# Altium schematic symbol library rf.SchLib: 36 symbols
Pins are listed as number, name and electrical type; pins without a type are passive.

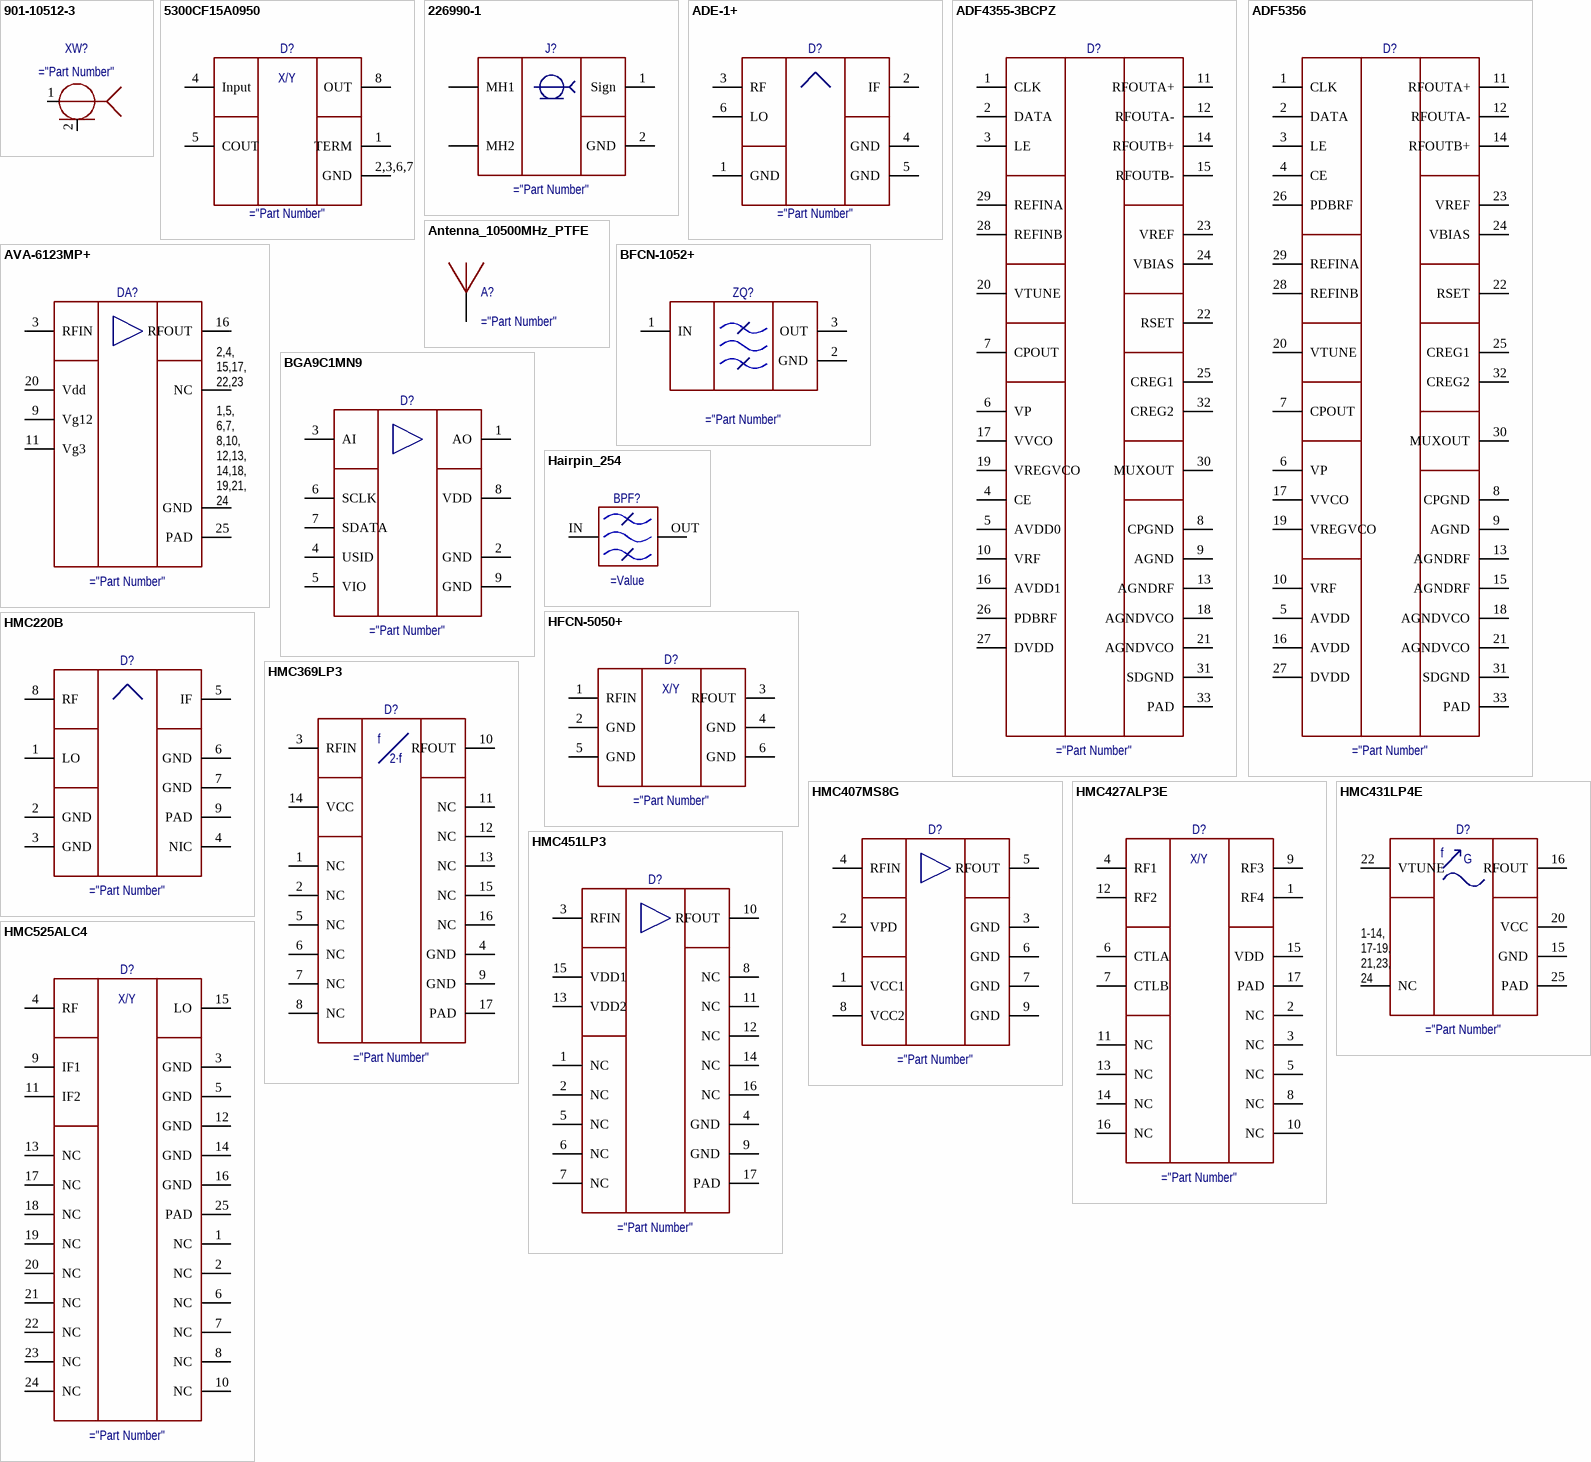
[diagram p0: symbols 901-10512-3 to HMC525ALC4]

## 901-10512-3
designator XW?
(VSWR) performance up to 26.5GHz. / Other features include 50Ω impedance, / 170V RMS voltage rating, 1000MΩ insulation resistance, and -65°C to +165°C temperature range.; ComponentLink1Description: Datasheet; ComponentLink1URL: https://static.chipdip.ru/lib/332/DOC030332423.pdf; ComponentLink2Description: Store; ComponentLink2URL: https://www.chipdip.ru/product0/8031527461
pins: 1, 2

## 5300CF15A0950
designator D?
5.3GHz Directional Coupler/ Low Pass Filter Combo Passive; ComponentLink1Description: Datasheet; ComponentLink1URL: https://www.minicircuits.com/pdfs/ADE-1+.pdf
pins: 1 TERM, 2,3,6,7 GND, 4 Input, 5 COUT, 8 OUT
text: X/Y

## 226990-1
designator J?
Connector BNC
pins: 1 Sign, 2 GND, MH1, MH2

## ADE-1+
designator D?
(LO Power +7 dBm) 0.5 to 500 MHz / IF DC - 500 MHz / ConvG = -6 dB / Isol L-R = 67 dB / RF power max = +17 dBm; ComponentLink1Description: Datasheet; ComponentLink1URL: https://www.minicircuits.com/pdfs/ADE-1+.pdf
pins: 1 GND, 2 IF, 3 RF, 4 GND, 5 GND, 6 LO

## ADF4355-3BCPZ
designator D?
The ADF4355-3 fractional-F or integer-N phase-locked loop (PLL) operation from 51.5625 MHz to 6600 MHz. / The ADF4355-3 has an integrated VCO with a fundamental output frequency ranging from 3300 MHz to 6600 MHz. In / addition, the VCO frequency is connected to divide by 1, 2, 4, 8, / 16, 32, or 64 circuits that allow the user to generate RF output frequencies as low as 51.5625 MHz. / VCO power supplies ranging from 3.1515 V to 3.4485 V.; ComponentLink1Description: DataSheet; ComponentLink1URL: https://static.chipdip.ru/lib/528/DOC011528621.pdf
pins: 1 CLK, 2 DATA, 3 LE, 4 CE, 5 AVDD0, 6 VP, 7 CPOUT, 8 CPGND, 9 AGND, 10 VRF, 11 RFOUTA+, 12 RFOUTA-, 13 AGNDRF, 14 RFOUTB+, 15 RFOUTB-, 16 AVDD1, 17 VVCO, 18 AGNDVCO, 19 VREGVCO, 20 VTUNE, 21 AGNDVCO, 22 RSET, 23 VREF, 24 VBIAS, 25 CREG1, 26 PDBRF, 27 DVDD, 28 REFINB, 29 REFINA, 30 MUXOUT, 31 SDGND, 32 CREG2, 33 PAD

## ADF5356
designator D?
The ADF5356 fractional-F or integer-N phase-locked loop (PLL) operation from 53.125 MHz to 13,600 MHz / The ADF5356 has an integrated VCO with a fundamental output frequency ranging from  53.125 MHz to 6800 MHz. / In addition, the VCO frequency is connected to divide by 1, 2, 4, 8, / 16, 32, or 64 circuits that allow the user to generate RF output frequencies as low as 51.5625 MHz. / VCO power supplies ranging from 4.75 V to 5.25 V.; ComponentLink1Description: DataSheet; ComponentLink1URL: https://www.micro-semiconductor.com/datasheet/8f-ADF5356BCPZ-RL7.pdf
pins: 1 CLK, 2 DATA, 3 LE, 4 CE, 5 AVDD, 6 VP, 7 CPOUT, 8 CPGND, 9 AGND, 10 VRF, 11 RFOUTA+, 12 RFOUTA-, 13 AGNDRF, 14 RFOUTB+, 15 AGNDRF, 16 AVDD, 17 VVCO, 18 AGNDVCO, 19 VREGVCO, 20 VTUNE, 21 AGNDVCO, 22 RSET, 23 VREF, 24 VBIAS, 25 CREG1, 26 PDBRF, 27 DVDD, 28 REFINB, 29 REFINA, 30 MUXOUT, 31 SDGND, 32 CREG2, 33 PAD

## Antenna_10500MHz_PTFE
designator A?
АНТЕННА 10,5 ГГц / WL-CT350 18мкм 508мкм / 18 dBi / ДИАМЕТР ВЫРЕЗА ПОЛИГОНА ЗЕМЛИ ВОКРУГ ОТВЕРСТИЯ НА ВНУТРЕННИХ СЛОЯХ 1,8мм / PTFE 15 mm
pins: 1

## AVA-6123MP+
designator DA?
VCO w/ BUFFER / AMPLIFIER, 5.5 - 6.1 GHz; Manufactured: Mini-Circuits; PartNumber: AVA-6123MP+; ComponentLink1Description: DataSheet; ComponentLink1URL: https://www.minicircuits.com/pdfs/AVA-6123MP+.pdf
pins: 1,5,6,7,8,10,12,13,14,18,19,21,24 GND, 2,4,15,17,22,23 NC, 3 RFIN, 9 Vg12, 11 Vg3, 16 RFOUT, 20 Vdd, 25 PAD
text: 2,4, / 15,17, / 22,23; 1,5, / 6,7, / 8,10, / 12,13, / 14,18, / 19,21, / 24

## BFCN-1052+
designator ZQ?
Bandpass Filter 50Ω 9.7 to 11.95 GHz / Pass Band Insertion Loss = 1.35 dB / Stop Band, Lower: DC-8100 30 dB / Stop Band, Upper: 14000-28500 28 dB / RF Power Input max: 2W; ComponentLink1Description: Datasheet; ComponentLink1URL: https://www.minicircuits.com/pdfs/BFCN-1052+.pdf
pins: 1 IN, 2 GND, 3 OUT

## BGA9C1MN9
designator D?
4.5 GHz Low Noise Amplifier with Gain Steps and MIPI Control / Supply Voltage: +5V; ComponentLink1Description: DataSheet; ComponentLink1URL: https://www.micro-semiconductor.com/datasheet/21-HMC407MS8GETR.pdf
pins: 1 AO, 2 GND, 3 AI, 4 USID, 5 VIO, 6 SCLK, 7 SDATA, 8 VDD, 9 GND

## Hairpin_254
designator BPF?
cent freq = 10.5 GHz / bandwidth = 400 MHz / losse = -4 dB / lock bandwidth = 2 GHz
pins: IN, OUT

## HFCN-5050+
designator D?
High Pass Filter
pins: 1 RFIN, 2 GND, 3 RFOUT, 4 GND, 5 GND, 6 GND
text: X/Y

## HMC220B
designator D?
The HMC220B is an ultraminiature, double-balanced mixer in / an 8-lead mini small outline package. This fundamental, / mixer is constructed of gallium arsenide (GaAs). / Schottky diodes and planar transformer baluns on the chip. / The device can be used as an upconverter, downconverter, / biphase demodulator, or phase comparator from 5 GHz to / 12 GHz. The HMC220B provides excellent local oscillator (LO) / to radio frequency (RF) and LO to intermediate frequency (IF) / isolation due to optimized balun structures and operates as low as / 7 dBm.; ComponentLink1Description: Datasheet; ComponentLink1URL: https://www.micro-semiconductor.com/datasheet/51-HMC220BMS8GE.pdf
pins: 1 LO, 2 GND, 3 GND, 4 NIC, 5 IF, 6 GND, 7 GND, 8 RF, 9 PAD

## HMC369LP3
designator D?
The  HMC369LP3E are active miniature / x2 frequency multipliers utilizing InGaP GaAs  in 3x3 mm leadless QFN surface mount packages. / Power output is +4 dBm typical from a / single +5V supply and varies little vs. input power, / temperature and supply voltage. Suppression of undesired fundamental and subharmonics is 30 dBc typical with respect to output signal level. The low additive SSB phase noise of -142 dBc/Hz at 100 kHz offset helps the user maintain good system noise performance.; ComponentLink1Description: Datasheet; ComponentLink1URL: https://static.chipdip.ru/lib/207/DOC043207299.pdf
pins: 1 NC, 2 NC, 3 RFIN, 4 GND, 5 NC, 6 NC, 7 NC, 8 NC, 9 GND, 10 RFOUT, 11 NC, 12 NC, 13 NC, 14 VCC, 15 NC, 16 NC, 17 PAD
text: f; 2·f

## HMC407MS8G
designator D?
POWER AMPLIFIER, 5 - 7 GHz / Gain: 15 dB / Saturated Power: +29 dBm / 28% PAE / Supply Voltage: +5V; ComponentLink1Description: DataSheet; ComponentLink1URL: https://www.micro-semiconductor.com/datasheet/21-HMC407MS8GETR.pdf
pins: 1 VCC1, 2 VPD, 3 GND, 4 RFIN, 5 RFOUT, 6 GND, 7 GND, 8 VCC2, 9 GND

## HMC427ALP3E
designator D?
TRANSFER SWITCH, DC - 8GHz                                   High Isolation: 40 ~ 45 dB thru 6 GHz / Low Insertion Loss: 1.5 dB at 6 GHz / 3x3mm SMT Package; ComponentLink1Description: DataSheet; ComponentLink1URL: https://www.micro-semiconductor.com/datasheet/cf-HMC427ALP3ETR.pdf
pins: 1 RF4, 2 NC, 3 NC, 4 RF1, 5 NC, 6 CTLA, 7 CTLB, 8 NC, 9 RF3, 10 NC, 11 NC, 12 RF2, 13 NC, 14 NC, 15 VDD, 16 NC, 17 PAD
text: X/Y

## HMC431LP4E
designator D?
VCO w/ BUFFER / AMPLIFIER, 5.5 - 6.1 GHz
pins: 1,2,3,4,5,6,7,8,9,10,11,12,13,14,17,19,21,23,24 NC, 15 GND, 16 RFOUT, 20 VCC, 22 VTUNE, 25 PAD
text: f; G; 1-14, / 17-19, / 21,23, / 24

## HMC451LP3
designator D?
The HMC451LP3(E) GaAs / Operating between 5 and 18 GHz, the amplifier provides 18 dB of gain, / +21 dBm of saturated power and 18% PAE from a single +5V supply. / This 50 Ohm matched amplifier / does not require any external components and the RF I/O’s are DC blocked.; ComponentLink1Description: Datasheet; ComponentLink1URL: https://www.micro-semiconductor.com/datasheet/25-HMC451LP3.pdf
pins: 1 NC, 2 NC, 3 RFIN, 4 GND, 5 NC, 6 NC, 7 NC, 8 NC, 9 GND, 10 RFOUT, 11 NC, 12 NC, 13 VDD2, 14 NC, 15 VDD1, 16 NC, 17 PAD

## HMC525ALC4
designator D?
RF I/Q Mixer
pins: 1 NC, 2 NC, 3 GND, 4 RF, 5 GND, 6 NC, 7 NC, 8 NC, 9 IF1, 10 NC, 11 IF2, 12 GND, 13 NC, 14 GND, 15 LO, 16 GND, 17 NC, 18 NC, 19 NC, 20 NC, 21 NC, 22 NC, 23 NC, 24 NC, 25 PAD
text: X/Y

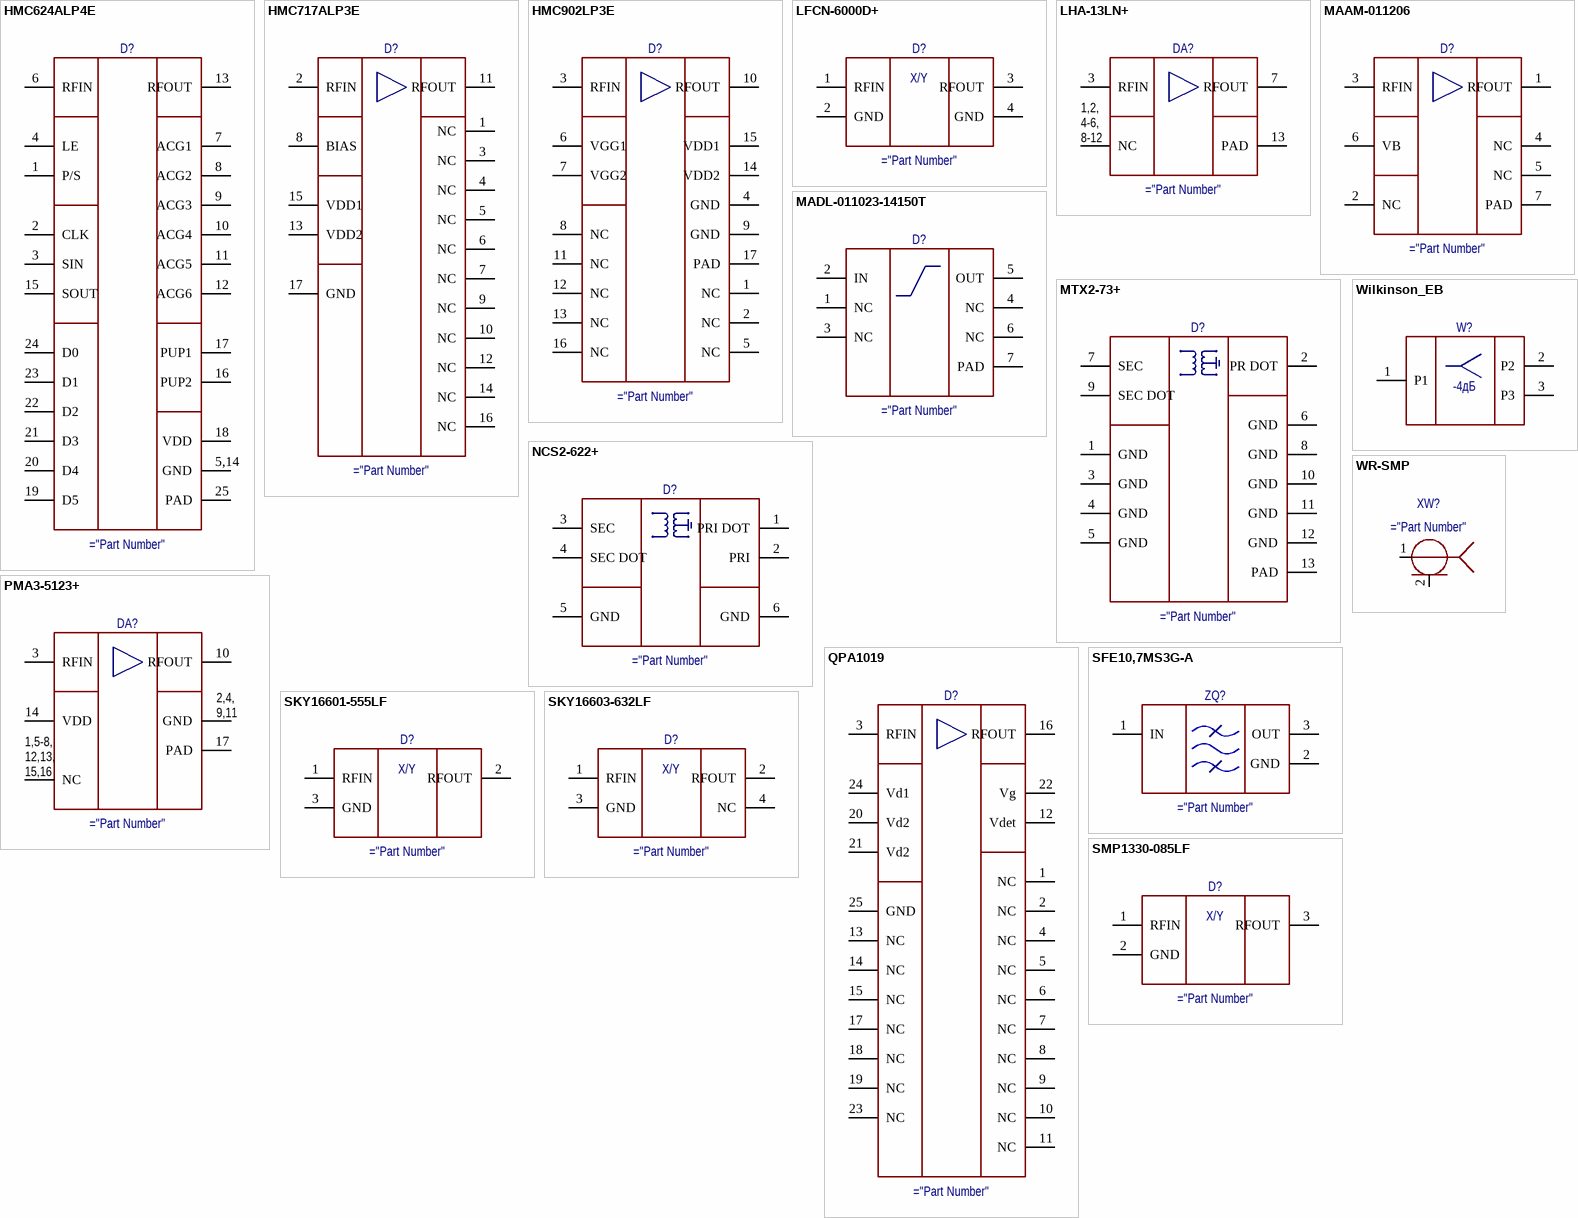
[diagram p1: symbols HMC624ALP4E to WR-SMP]

## HMC624ALP4E
designator D?
GaAs Digital Attenuator / 0.1 GHz to 6.0 GHz,0.5 dB LSB, 6-Bit,; ComponentLink1Description: DataSheet; ComponentLink1URL: *
pins: 1 P/S, 2 CLK, 3 SIN, 4 LE, 5,14 GND, 6 RFIN, 7 ACG1, 8 ACG2, 9 ACG3, 10 ACG4, 11 ACG5, 12 ACG6, 13 RFOUT, 15 SOUT, 16 PUP2, 17 PUP1, 18 VDD, 19 D5, 20 D4, 21 D3, 22 D2, 23 D1, 24 D0, 25 PAD

## HMC717ALP3E
designator D?
LOW NOISE AMPLIFIER, 4.8 - 6.0 GHz              Noise Figure: 1.1 dB / Gain: 14.5 dB / Output IP3: +29.5 dBm / Single Supply: +3V to +5V / 16 Lead 3x3mm QFN; ComponentLink1Description: DataSheet; ComponentLink1URL: *
pins: 1 NC, 2 RFIN, 3 NC, 4 NC, 5 NC, 6 NC, 7 NC, 8 BIAS, 9 NC, 10 NC, 11 RFOUT, 12 NC, 13 VDD2, 14 NC, 15 VDD1, 16 NC, 17 GND

## HMC902LP3E
designator D?
The HMC902LP3E is a GaAs MMI C Low Noise Amplifier housed in a leadless 3x3 mm plastic surface mount package. / The amplifier operates between 5 and 10 GHz, providing 19 dB of small signal / gain, 1.8 dB noise figure, and output IP3 of +28 dBm, while requiring only 80 mA from a +3.5V supply. The P1dB output power of +16 dBm. The HMC902LP3E also features I/Os that are DC blocked and internally matched to 50 Ohms.; ComponentLink1Description: Datasheet; ComponentLink1URL: https://static.chipdip.ru/lib/783/DOC011783473.pdf
pins: 1 NC, 2 NC, 3 RFIN, 4 GND, 5 NC, 6 VGG1, 7 VGG2, 8 NC, 9 GND, 10 RFOUT, 11 NC, 12 NC, 13 NC, 14 VDD2, 15 VDD1, 16 NC, 17 PAD

## LFCN-6000D+
designator D?
Low Pass Filter
pins: 1 RFIN, 2 GND, 3 RFOUT, 4 GND
text: X/Y

## LHA-13LN+
designator DA?
Amplifier 50Ω 1 to 1000 MHzy / Low supply voltage, +3 to +5V / Gain = 23 dB / P1dB = 15 dBm / Noise = 1.1 dB; Manufacturer: Mini-Circuit; PartNumber: LHA-13LN+; ComponentLink1Description: DataSheet; ComponentLink1URL: https://www.minicircuits.com/pdfs/LHA-13LN+.pdf
pins: 1,2,4,5,6,8,9,10,11,12 NC, 3 RFIN, 7 RFOUT, 13 PAD
text: 1,2, / 4-6, / 8-12

## MAAM-011206
designator D?
The MAAM-011206 is a versatile, DC - 15 GHz, / Darlington amplifier, with 13.5 dB typical gain and 18 / dBm of output power. The input and output are fully / matched to 50 Ω with typical return loss >10 dB. / Third order linearity (OIP3) is typically 28 dBm and / reverse isolation is >21 dB. Functional operation is / achieved with a single bias voltage VDD, from +3 V / to +5 V.; ComponentLink1Description: Datasheet; ComponentLink1URL: https://cdn.macom.com/datasheets/MAAM-011206.pdf
pins: 1 RFOUT, 2 NC, 3 RFIN, 4 NC, 5 NC, 6 VB, 7 PAD

## MADL-011023-14150T
designator D?
PIN Diode Limiter 10 MHz - 12 GHz / C.W. Incident Power = 40 dBm / CW Flat Leakage Power  = 20 dBm; ComponentLink1Description: Datasheet; ComponentLink1URL: https://static.chipdip.ru/lib/817/DOC049817191.pdf
pins: 1 NC, 2 IN, 3 NC, 4 NC, 5 OUT, 6 NC, 7 PAD

## MTX2-73+
designator D?
BalUn 50Ω 2000 to 7000 MHz; ComponentLink1Description: DataSheet; ComponentLink1URL: https://static.chipdip.ru/lib/249/DOC051249090.pdf
pins: 1 GND, 2 PR DOT, 3 GND, 4 GND, 5 GND, 6 GND, 7 SEC, 8 GND, 9 SEC DOT, 10 GND, 11 GND, 12 GND, 13 PAD

## NCS2-622+
designator D?
BalUn 50Ω 5600 to 6200 MHz    1:2 Ratio; ComponentLink1Description: DataSheet; ComponentLink1URL: https://www.minicircuits.com/pdfs/NCS2-622+.pdf
pins: 1 PRI DOT, 2 PRI, 3 SEC, 4 SEC DOT, 5 GND, 6 GND

## PMA3-5123+
designator DA?
VCO w/ BUFFER / AMPLIFIER, 5.5 - 6.1 GHz; Manufactured: Mini-Circuits; PartNumber: PMA3-5123+; ComponentLink1Description: DataSheet; ComponentLink1URL: https://www.minicircuits.com/pdfs/PMA3-5123+.pdf
pins: 1,5,6,7,8,12,13,15,16 NC, 2,4,9,11 GND, 3 RFIN, 10 RFOUT, 14 VDD, 17 PAD
text: 2,4, / 9,11; 1,5-8, / 12,13, / 15,16

## QPA1019
designator D?
4.5 – 7.0 GHz 10 W / GaN Power Amplifier; PartNumber: QPA1019; Manufacturer: QORVO; Size: 5.0 x 5.0 x 0.85 mm
pins: 1 NC, 2 NC, 3 RFIN, 4 NC, 5 NC, 6 NC, 7 NC, 8 NC, 9 NC, 10 NC, 11 NC, 12 Vdet, 13 NC, 14 NC, 15 NC, 16 RFOUT, 17 NC, 18 NC, 19 NC, 20 Vd2, 21 Vd2, 22 Vg, 23 NC, 24 Vd1, 25 GND

## SFE10,7MS3G-A
designator ZQ?
ComponentLink1Description: Datasheet; ComponentLink1URL: https://static.chipdip.ru/lib/039/DOC006039122.pdf
pins: 1 IN, 2 GND, 3 OUT

## SKY16601-555LF
designator D?
Integrated Single-Stage PIN Diode Limiter / Module 0.50 to 6.0 GHz
pins: 1 RFIN, 2 RFOUT, 3 GND
text: X/Y

## SKY16603-632LF
designator D?
Integrated Single-Stage PIN Diode Limiter / Module 0.50 to 6.0 GHz
pins: 1 RFIN, 2 RFOUT, 3 GND, 4 NC
text: X/Y

## SMP1330-085LF
designator D?
Integrated Single-Stage PIN Diode Limiter
pins: 1 RFIN, 2 GND, 3 RFOUT
text: X/Y

## Wilkinson_EB
designator W?
W50 = 0.58 mm / W71 = 0.31 mm / ArcRad = 1.2 mm / ArcRadOut = 2*W50 mm / ResL = 1 mm / ResW = 0.5 mm / ResS = 0.25 mm / Ladd = (ResL+W50)/2 mm
pins: 1 P1, 2 P2, 3 P3
text: -4дБ

## WR-SMP
designator XW?
pins: 1, 2